# Altium schematic symbol library DIODES INC MOSFET N-CH SOT-223.SchLib: 1 symbol
Pins are listed as number, name and electrical type; pins without a type are passive.

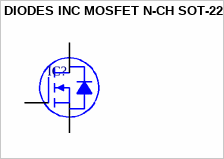
[diagram p0: symbol DIODES INC MOSFET N-CH SOT-223]

## DIODES INC MOSFET N-CH SOT-223
designator IC?
pins: 1 G, 2 D, 3 S, 4 D